# Altium schematic symbol library Custom Library.SchLib: 44 symbols
Pins are listed as number, name and electrical type; pins without a type are passive.

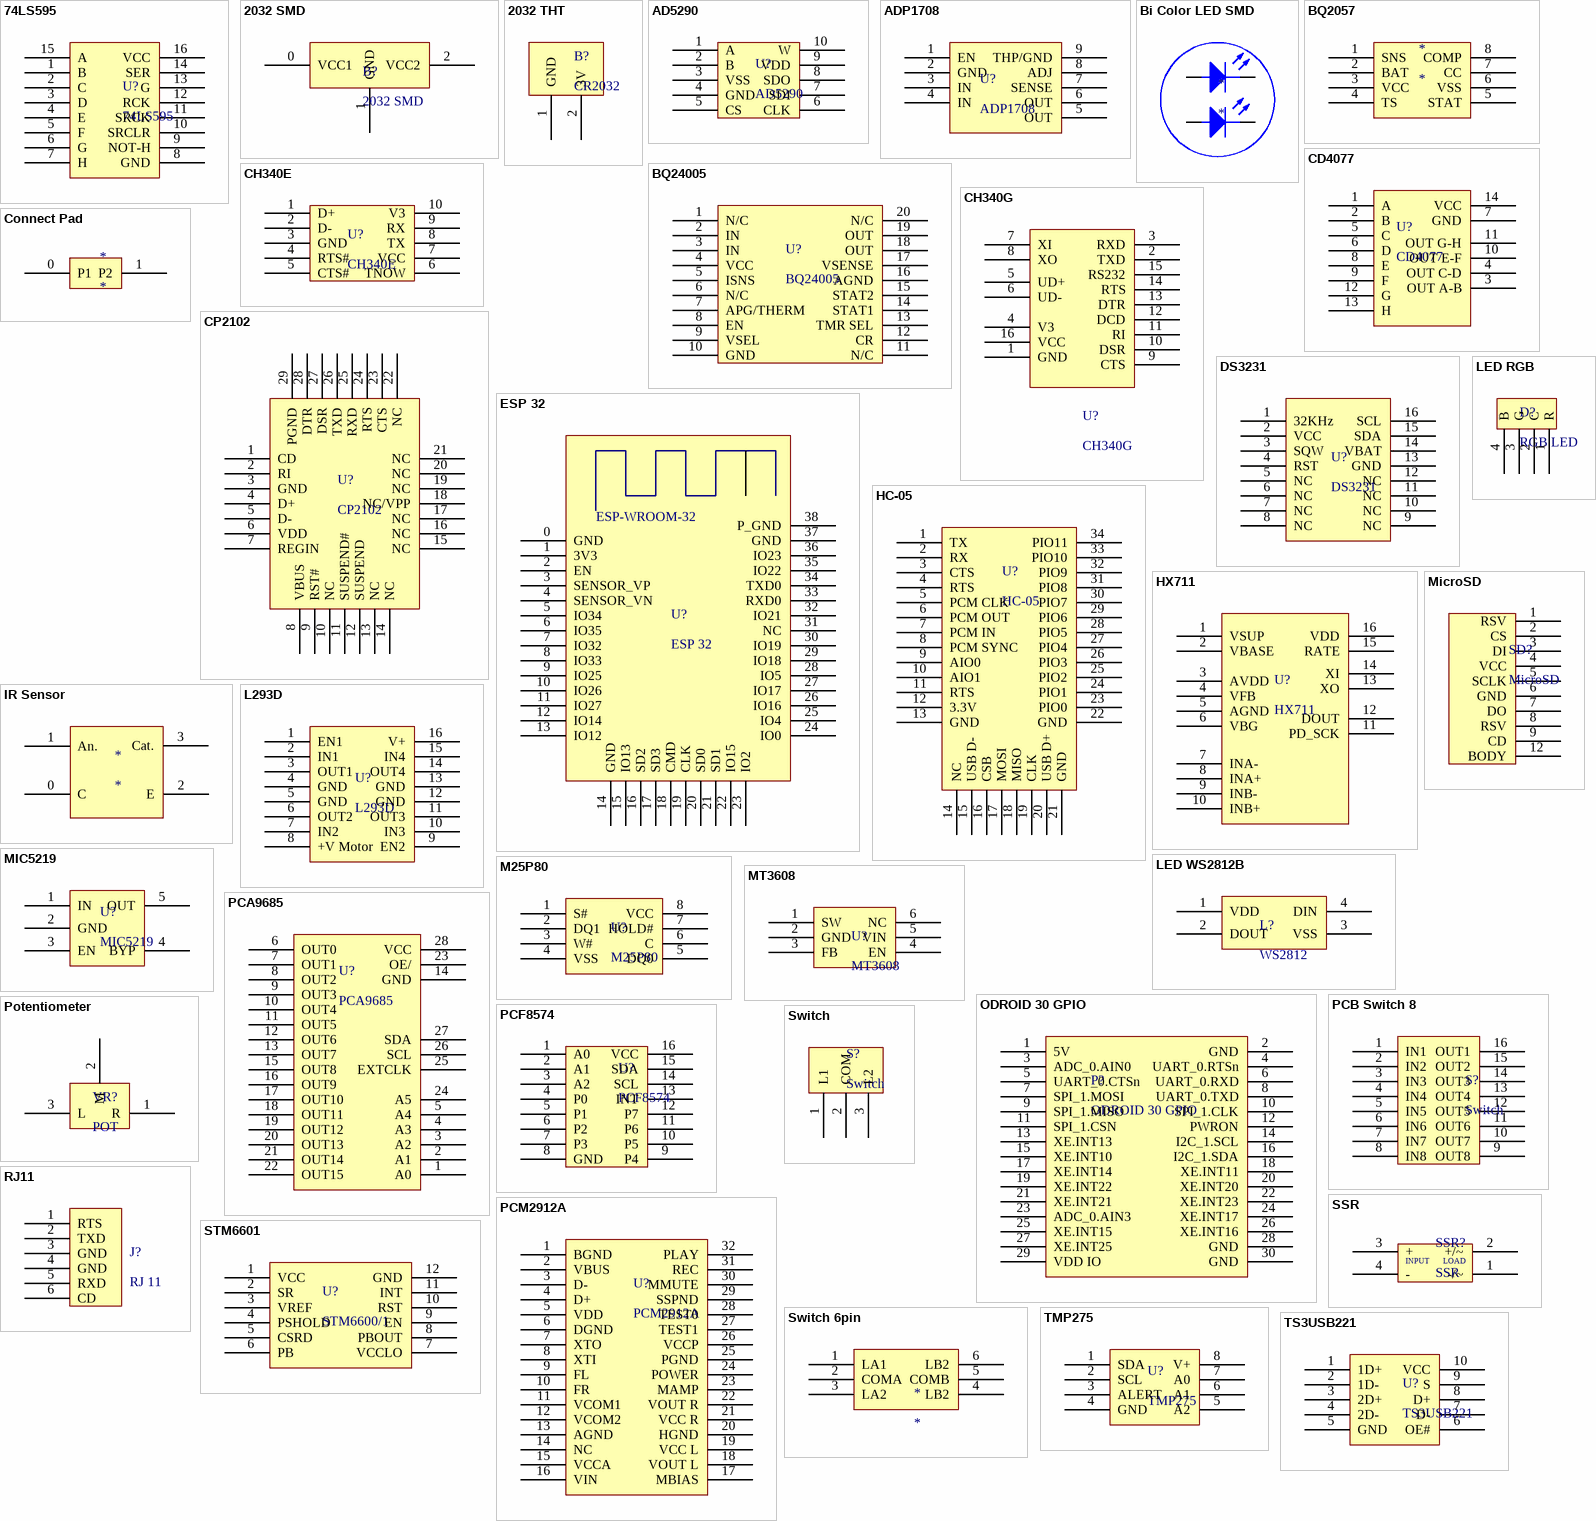
[diagram p0: symbols 74LS595 to TS3USB221]

## 74LS595
designator U?
footprint D016_N (16-Pin Small Outline Integrated Circuit 1.27 mm Pitch, IPC Medium Density)
footprint J016D (DIP; 16 Leads; Row Spacing 7.62 mm; Pitch 2.54 mm)
pins: 1 B, 2 C, 3 D, 4 E, 5 F, 6 G, 7 H, 8 GND, 9 NOT-H, 10 SRCLR, 11 SRCK, 12 RCK, 13 G, 14 SER, 15 A, 16 VCC

## 2032 SMD
designator B?
footprint 2032 SMD
pins: 0 VCC1, 1 GND, 2 VCC2

## 2032 THT
designator B?, comment CR2032
footprint CR2032THT
pins: 1 GND, 2 3V

## AD5290
designator U?
Digital Potentiometer
footprint MSOP10 (MSOP 10 pitch 0.5mm)
pins: 1 A, 2 B, 3 VSS, 4 GND, 5 CS, 6 CLK, 7 SDI, 8 SDO, 9 VDD, 10 W

## ADP1708
designator U?
1 A, Low Dropout,  CMOS Linear Regulator
footprint SOIC 8 - THPAD (8-Pin Small Outline Integrated Circuit 1.27 mm Pitch, IPC Medium Density)
pins: 1 EN, 2 GND, 3 IN, 4 IN, 5 OUT, 6 OUT, 7 SENSE, 8 ADJ, 9 THP/GND

## Bi Color LED SMD
designator *
footprint BI COLOR LED
pins: 1 A, 2 K, 3 A, 4 K

## BQ2057
designator *
footprint D008_N (8-Pin Small Outline Integrated Circuit 1.27 mm Pitch, IPC Medium Density)
pins: 1 SNS, 2 BAT, 3 VCC, 4 TS, 5 STAT, 6 VSS, 7 CC, 8 COMP

## BQ24005
designator U?
TWO-CELL Li-ION CHARGE MANAGEMENT IC; Company: Texas Instruments
footprint PW020 (Shrink Small Outline; 20 Leads; Body Width 4.4 mm; Pitch 0.65 mm)
pins: 1 N/C, 2 IN, 3 IN, 4 VCC, 5 ISNS, 6 N/C, 7 APG/THERM, 8 EN, 9 VSEL, 10 GND, 11 N/C, 12 CR, 13 TMR SEL, 14 STAT1, 15 STAT2, 16 AGND, 17 VSENSE, 18 OUT, 19 OUT, 20 N/C

## CD4077
designator U?
CMOS Quad  Exclusive-NOR Gate
footprint SOP-14
pins: 1 A, 2 B, 3 OUT A-B, 4 OUT C-D, 5 C, 6 D, 7 GND, 8 E, 9 F, 10 OUT E-F, 11 OUT G-H, 12 G, 13 H, 14 VCC

## CH340E
designator U?
TTL IC
footprint UMAX10 (Shrink Small Outline; 10 Leads; Body Width 3 mm; Pitch 0.5 mm)
pins: 1 D+, 2 D-, 3 GND, 4 RTS#, 5 CTS#, 6 TNOW, 7 VCC, 8 TX, 9 RX, 10 V3

## CH340G
designator U?
footprint DBQ016 (SSOP; 16 Leads; Body Width 3.9 mm; Pitch 0.635 mm)
footprint Model Name (Model Description)
pins: 1 GND, 2 TXD, 3 RXD, 4 V3, 5 UD+, 6 UD-, 7 XI, 8 XO, 9 CTS, 10 DSR, 11 RI, 12 DCD, 13 DTR, 14 RTS, 15 RS232, 16 VCC

## Connect Pad
designator *
footprint Connect Pad (Connect Pad 2pin)
pins: 0 P1, 1 P2

## CP2102
designator U?
USB to USRT converter
footprint QFN28 (PQFN, 28-Leads, Body 5.00x5.00mm, Pitch 0.50mm, Thermal Pad 3.24x3.24mm, IPC Medium Density)
pins: 1 CD, 2 RI, 3 GND, 4 D+, 5 D-, 6 VDD, 7 REGIN, 8 VBUS, 9 RST#, 10 NC, 11 SUSPEND#, 12 SUSPEND, 13 NC, 14 NC, 15 NC, 16 NC, 17 NC, 18 NC/VPP, 19 NC, 20 NC, 21 NC, 22 NC, 23 CTS, 24 RTS, 25 RXD, 26 TXD, 27 DSR, 28 DTR, 29 PGND

## DS3231
designator U?
RTC
footprint 16SO.300_N (16-Pin Small Outline Integrated Circuit 1.27 mm Pitch, IPC Medium Density)
pins: 1 32KHz, 2 VCC, 3 SQW, 4 RST, 5 NC, 6 NC, 7 NC, 8 NC, 9 NC, 10 NC, 11 NC, 12 NC, 13 GND, 14 VBAT, 15 SDA, 16 SCL

## ESP 32
designator U?
footprint ESP 32
pins: 0 GND, 1 3V3, 2 EN, 3 SENSOR_VP, 4 SENSOR_VN, 5 IO34, 6 IO35, 7 IO32, 8 IO33, 9 IO25, 10 IO26, 11 IO27, 12 IO14, 13 IO12, 14 GND, 15 IO13, 16 SD2, 17 SD3, 18 CMD, 19 CLK, 20 SD0, 21 SD1, 22 IO15, 23 IO2, 24 IO0, 25 IO4, 26 IO16, 27 IO17, 28 IO5, 29 IO18, 30 IO19, 31 NC, 32 IO21, 33 RXD0, 34 TXD0, 35 IO22, 36 IO23, 37 GND, 38 P_GND
text: ESP-WROOM-32

## HC-05
designator U?
footprint HC-05 (Bluetooth module)
pins: 1 TX, 2 RX, 3 CTS, 4 RTS, 5 PCM CLK, 6 PCM OUT, 7 PCM IN, 8 PCM SYNC, 9 AIO0, 10 AIO1, 11 RTS, 12 3.3V, 13 GND, 14 NC, 15 USB D-, 16 CSB, 17 MOSI, 18 MISO, 19 CLK, 20 USB D+, 21 GND, 22 GND, 23 PIO0, 24 PIO1, 25 PIO2, 26 PIO3, 27 PIO4, 28 PIO5, 29 PIO6, 30 PIO7, 31 PIO8, 32 PIO9, 33 PIO10, 34 PIO11

## HX711
designator U?
footprint DBQ016 (SSOP; 16 Leads; Body Width 3.9 mm; Pitch 0.635 mm)
pins: 1 VSUP, 2 VBASE, 3 AVDD, 4 VFB, 5 AGND, 6 VBG, 7 INA-, 8 INA+, 9 INB-, 10 INB+, 11 PD_SCK, 12 DOUT, 13 XO, 14 XI, 15 RATE, 16 VDD

## IR Sensor
designator *
footprint IR PRO
footprint Model Name (Model Description)
pins: 0 C, 1 An., 2 E, 3 Cat.

## L293D
designator U?
Motor Driver
footprint N016 (DIP; 16 Leads; Row Spacing 7.62 mm; Pitch 2.54 mm)
pins: 1 EN1, 2 IN1, 3 OUT1, 4 GND, 5 GND, 6 OUT2, 7 IN2, 8 +V Motor, 9 EN2, 10 IN3, 11 OUT3, 12 GND, 13 GND, 14 OUT4, 15 IN4, 16 V+

## LED RGB
designator D?, comment RGB LED
footprint LED RGB (5mm RGB LED)
pins: 1 R, 2 C, 3 G, 4 B

## LED WS2812B
designator L?, comment WS2812
RGB LED
footprint LED WS2812B (Intelligent control LED  integrated light source)
pins: 1 VDD, 2 DOUT, 3 VSS, 4 DIN

## M25P80
designator U?
8MB Flash memory; Company: Micron
footprint NSO8_N (8-Pin Small Outline Integrated Circuit 1.27 mm Pitch, IPC Medium Density)
pins: 1 S#, 2 DQ1, 3 W#, 4 VSS, 5 DQ0, 6 C, 7 HOLD#, 8 VCC

## MIC5219
designator U?
500 mA Peak Output LDO Regulator
footprint SOT23_LP5907 (SOT23, 5-Leads, Body 2.88x2.80mm, Pitch 0.95mm, IPC Medium Density)
pins: 1 IN, 2 GND, 3 EN, 4 BYP, 5 OUT

## MicroSD
designator SD?
footprint SD Socket
pins: 1 RSV, 2 CS, 3 DI, 4 VCC, 5 SCLK, 6 GND, 7 DO, 8 RSV, 9 CD, 12 BODY

## MT3608
designator U?
Boost converter
footprint SOT23-6 (SOT-457/SC-74; 6 Leads; Body 3 x 3 mm, inc. leads (LxW max))
pins: 1 SW, 2 GND, 3 FB, 4 EN, 5 VIN, 6 NC

## ODROID 30 GPIO
designator P?
pins: 1 5V, 2 GND, 3 ADC_0.AIN0, 4 UART_0.RTSn, 5 UART_0.CTSn, 6 UART_0.RXD, 7 SPI_1.MOSI, 8 UART_0.TXD, 9 SPI_1.MISO, 10 SPI_1.CLK, 11 SPI_1.CSN, 12 PWRON, 13 XE.INT13, 14 I2C_1.SCL, 15 XE.INT10, 16 I2C_1.SDA, 17 XE.INT14, 18 XE.INT11, 19 XE.INT22, 20 XE.INT20, 21 XE.INT21, 22 XE.INT23, 23 ADC_0.AIN3, 24 XE.INT17, 25 XE.INT15, 26 XE.INT16, 27 XE.INT25, 28 GND, 29 VDD IO, 30 GND

## PCA9685
designator U?
16-channel, 12-bit PWM Fm+ I2C-bus LED controller
footprint TSSOP28 (Shrink Small Outline; 28 Leads; Body Width 4.4 mm; Pitch 0.65 mm)
pins: 1 A0, 2 A1, 3 A2, 4 A3, 5 A4, 6 OUT0, 7 OUT1, 8 OUT2, 9 OUT3, 10 OUT4, 11 OUT5, 12 OUT6, 13 OUT7, 14 GND, 15 OUT8, 16 OUT9, 17 OUT10, 18 OUT11, 19 OUT12, 20 OUT13, 21 OUT14, 22 OUT15, 23 OE/, 24 A5, 25 EXTCLK, 26 SCL, 27 SDA, 28 VCC

## PCB Switch 8
designator S?, comment Switch
footprint DIP8_Switch (DIP; 16 Leads; Row Spacing 7.62 mm; Pitch 2.54 mm)
pins: 1 IN1, 2 IN2, 3 IN3, 4 IN4, 5 IN5, 6 IN6, 7 IN7, 8 IN8, 9 OUT8, 10 OUT7, 11 OUT6, 12 OUT5, 13 OUT4, 14 OUT3, 15 OUT2, 16 OUT1

## PCF8574
designator U?
Remote 8-Bit I/O Expander for I  2C Bus
footprint WSO16_M (16-Pin Small Outline Integrated Circuit 1.27 mm Pitch, IPC Low Density)
pins: 1 A0, 2 A1, 3 A2, 4 P0, 5 P1, 6 P2, 7 P3, 8 GND, 9 P4, 10 P5, 11 P6, 12 P7, 13 INT, 14 SCL, 15 SDA, 16 VCC

## PCM2912A
designator U?
Audio Codec With USB Interface
footprint 32A_N (32-Pin Thin Quad Flat Pack 0.8 mm Pitch, IPC Medium Density)
pins: 1 BGND, 2 VBUS, 3 D-, 4 D+, 5 VDD, 6 DGND, 7 XTO, 8 XTI, 9 FL, 10 FR, 11 VCOM1, 12 VCOM2, 13 AGND, 14 NC, 15 VCCA, 16 VIN, 17 MBIAS, 18 VOUT L, 19 VCC L, 20 HGND, 21 VCC R, 22 VOUT R, 23 MAMP, 24 POWER, 25 PGND, 26 VCCP, 27 TEST1, 28 TEST0, 29 SSPND, 30 MMUTE, 31 REC, 32 PLAY

## Potentiometer
designator VR?, comment POT
Potentiometer
footprint Potentiometer (THT)
footprint potentiometer SMD (SMD)
pins: 1 R, 2 M, 3 L

## RJ11
designator J?, comment RJ 11
footprint RJ-11
pins: 1 RTS, 2 TXD, 3 GND, 4 GND, 5 RXD, 6 CD

## SSR
designator SSR?
HHG1D-1
footprint SSR (HHG1D-1)
pins: 1 -/~, 2 +/~, 3 +, 4 -
text: INPUT; LOAD

## STM6601
designator U?, comment STM6600/1
Smart push-button on/off controller with Smart Reset™ and  power-on lockout
footprint TDFN12
pins: 1 VCC, 2 SR, 3 VREF, 4 PSHOLD, 5 CSRD, 6 PB, 7 VCCLO, 8 PBOUT, 9 EN, 10 RST, 11 INT, 12 GND

## Switch
designator S?
footprint SW-PCB (1P2T 90 Angle Horizontal Slide)
pins: 1 L1, 2 COM, 3 L2

## Switch 6pin
designator *
footprint SW-PCB 6PIN (2P2T 6PIN)
pins: 1 LA1, 2 COMA, 3 LA2, 4 LB2, 5 COMB, 6 LB2

## TMP275
designator U?
Temperature Sensor with I2C and SMBus Interface
footprint SOIC8N_L (8-Pin Small Outline Integrated Circuit 1.27 mm Pitch, IPC High Density)
pins: 1 SDA, 2 SCL, 3 ALERT, 4 GND, 5 A2, 6 A1, 7 A0, 8 V+

## TS3USB221
designator U?
USB Multiplex
footprint TS3USB221 (USB multiplex)
pins: 1 1D+, 2 1D-, 3 2D+, 4 2D-, 5 GND, 6 OE#, 7 D-, 8 D+, 9 S, 10 VCC

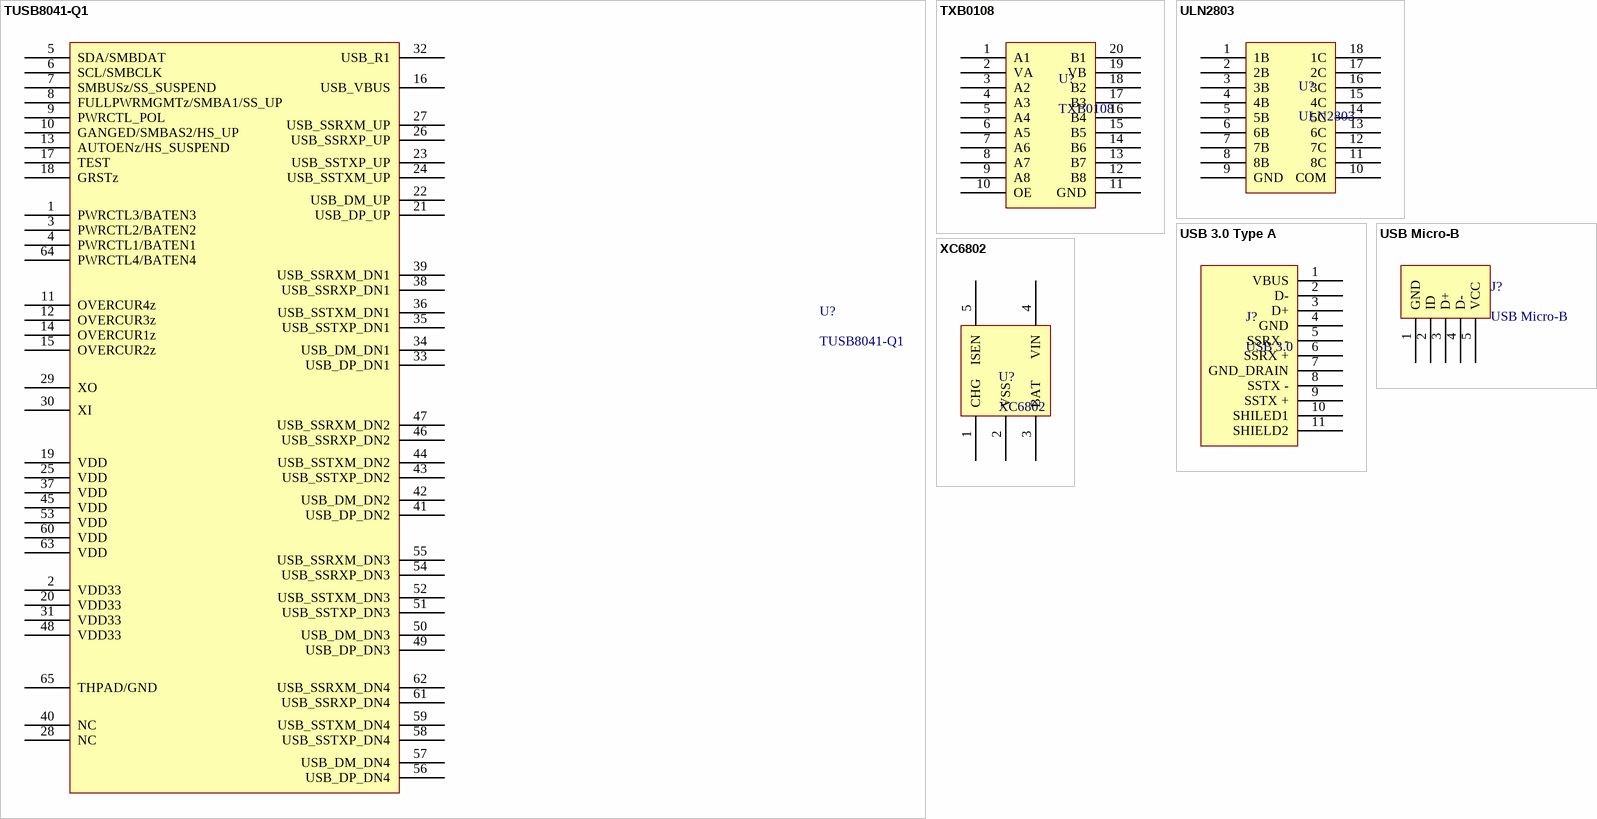
[diagram p1: symbols TUSB8041-Q1 to XC6802]

## TUSB8041-Q1
designator U?
Four-Port USB 3.0 Hub
footprint PM064_N (64-Pin Thin Quad Flat Pack 0.5 mm Pitch, IPC Medium Density)
pins: 1 PWRCTL3/BATEN3, 2 VDD33, 3 PWRCTL2/BATEN2, 4 PWRCTL1/BATEN1, 5 SDA/SMBDAT, 6 SCL/SMBCLK, 7 SMBUSz/SS_SUSPEND, 8 FULLPWRMGMTz/SMBA1/SS_UP, 9 PWRCTL_POL, 10 GANGED/SMBAS2/HS_UP, 11 OVERCUR4z, 12 OVERCUR3z, 13 AUTOENz/HS_SUSPEND, 14 OVERCUR1z, 15 OVERCUR2z, 16 USB_VBUS, 17 TEST , 18 GRSTz, 19 VDD, 20 VDD33, 21 USB_DP_UP, 22 USB_DM_UP, 23 USB_SSTXP_UP, 24 USB_SSTXM_UP, 25 VDD, 26 USB_SSRXP_UP, 27 USB_SSRXM_UP, 28 NC, 29 XO, 30 XI, 31 VDD33, 32 USB_R1, 33 USB_DP_DN1, 34 USB_DM_DN1, 35 USB_SSTXP_DN1, 36 USB_SSTXM_DN1, 37 VDD, 38 USB_SSRXP_DN1, 39 USB_SSRXM_DN1, 40 NC, 41 USB_DP_DN2, 42 USB_DM_DN2, 43 USB_SSTXP_DN2, 44 USB_SSTXM_DN2, 45 VDD, 46 USB_SSRXP_DN2, 47 USB_SSRXM_DN2, 48 VDD33, 49 USB_DP_DN3, 50 USB_DM_DN3, 51 USB_SSTXP_DN3, 52 USB_SSTXM_DN3, 53 VDD, 54 USB_SSRXP_DN3, 55 USB_SSRXM_DN3, 56 USB_DP_DN4, 57 USB_DM_DN4, 58 USB_SSTXP_DN4, 59 USB_SSTXM_DN4, 60 VDD, 61 USB_SSRXP_DN4, 62 USB_SSRXM_DN4, 63 VDD, 64 PWRCTL4/BATEN4, 65 THPAD/GND

## TXB0108
designator U?
8-Bit Bidirectional Voltage-Level Translator
footprint SOP20
pins: 1 A1, 2 VA, 3 A2, 4 A3, 5 A4, 6 A5, 7 A6, 8 A7, 9 A8, 10 OE, 11 GND, 12 B8, 13 B7, 14 B6, 15 B5, 16 B4, 17 B3, 18 B2, 19 VB, 20 B1

## ULN2803
designator U?
Darlington Transistor Arrays
footprint SOIC 18 (16-Pin Small Outline Integrated Circuit 1.27 mm Pitch, IPC Low Density)
pins: 1 1B, 2 2B, 3 3B, 4 4B, 5 5B, 6 6B, 7 7B, 8 8B, 9 GND, 10 COM, 11 8C, 12 7C, 13 6C, 14 5C, 15 4C, 16 3C, 17 2C, 18 1C

## USB 3.0 Type A
designator J?, comment USB 3.0
USB 3.0 Type A Feamle
footprint USB 3.0 (Type A female)
pins: 1 VBUS, 2 D-, 3 D+, 4 GND, 5 SSRX -, 6 SSRX +, 7 GND_DRAIN, 8 SSTX -, 9 SSTX +, 10 SHILED1, 11 SHIELD2

## USB Micro-B
designator J?
footprint USB Micro - B
pins: 1 GND, 2 ID, 3 D+, 4 D-, 5 VCC

## XC6802
designator U?
Single cell li-ion charger
footprint SOT-25
pins: 1 CHG, 2 VSS, 3 BAT, 4 VIN, 5 ISEN